# EAGLE library part AD8129 (library opamps)
AD81292: Differential line receiver (Analog Devices) ±12V, ±40mA, 2µA bias 0.8mV offset, 170MHz UGF, 4.6nV/rt(Hz) noise
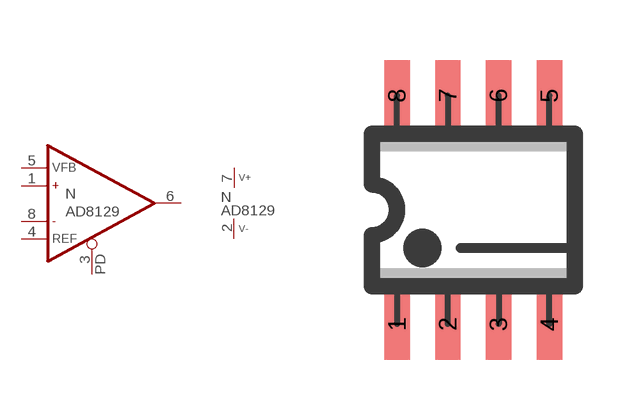
[diagram p264: symbol with the pads of SO08; footprint SO08]

Designator prefix N; gates P=V+- A=AD8129

## AD8129  [SO08]
1  A:OP+  in
2  P:V-  pwr
3  A:PD  in
4  A:REF
5  A:VFB
6  A:OPO  out
7  P:V+  pwr
8  A:OP-  in

## AD8129S  [SO08]
Pads as for SO08

## Footprint SO08 (pad centres in mm)
SO-8, SMD SOIC IC package, 8 pins
smd 0.635 x 1.778: 1 -1.905,-2.857; 2 -0.635,-2.857; 3 0.635,-2.857; 4 1.905,-2.857; 5 1.905,2.857; 6 0.635,2.857; 7 -0.635,2.857; 8 -1.905,2.857